# Altium footprint library Diode bridge 1A-1000V.PcbLib: 1 footprints
Each footprint in its own frame and in the unit in brackets; x right, y up, seen from the top. Pads: shape width x height; smd on the part's side, far side on the other; paste and mask are expansions set on the pad; w line width, h text height; cw(c..) or ccw(c..) is an arc to the next point about the centre after c.
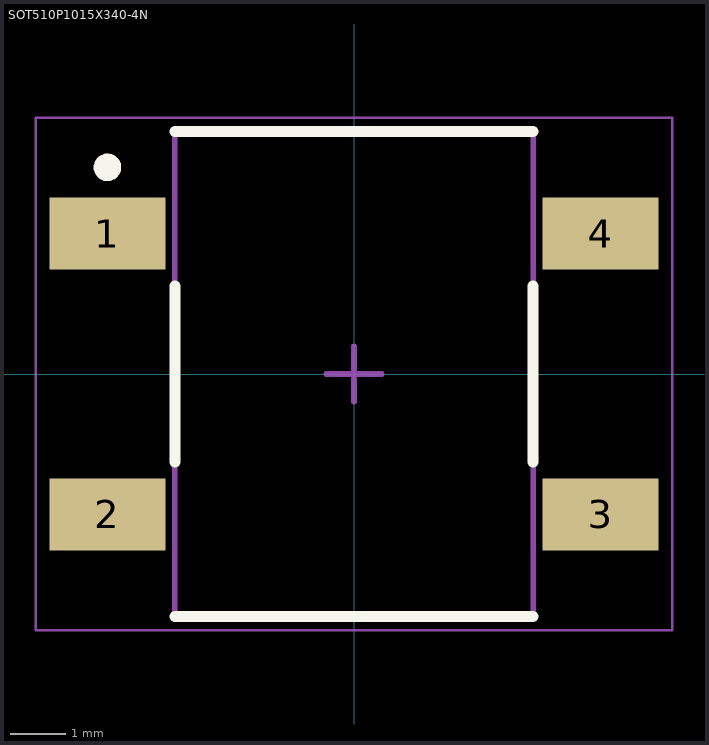
[diagram p0: the footprint, top view; thin cyan lines are the x and y axes]

## SOT510P1015X340-4N [mm] "SOT343, 4-Leads, Body 8.50x10.15mm, Pitch 5.10mm, IPC Medium Density"
height 3.4
pads (4):
  rect 2.1x1.3 smd: 1(-4.475,2.55) 2(-4.475,-2.55) 3(4.475,-2.55) 4(4.475,2.55)
Top Overlay:
  circle w0.25: c-4.475,3.75 r0.125
  lines w0.2: -3.25,-4.4 3.25,-4.4 ; -3.25,-1.6 -3.25,1.6 ; -3.25,4.4 3.25,4.4 ; 3.25,-1.6 3.25,1.6
Mechanical 13:
  lines w0.1: -3.25,-4.4 -3.25,4.4 3.25,4.4 3.25,-4.4 -3.25,-4.4
Mechanical 15:
  lines w0.05: -5.775,-4.65 -5.775,4.65 5.775,4.65 5.775,-4.65 -5.775,-4.65
  lines w0.1: -0.5,0 0.5,0 ; 0,-0.5 0,0.5
3D body "User Library-SDIP-1.STEP": height 2.93, standoff 0, extent -5.08,-4.191 4.92,4.309